# Altium schematic symbol library WC_Lib.SchLib: 6 symbols
Pins are listed as number, name and electrical type; pins without a type are passive.

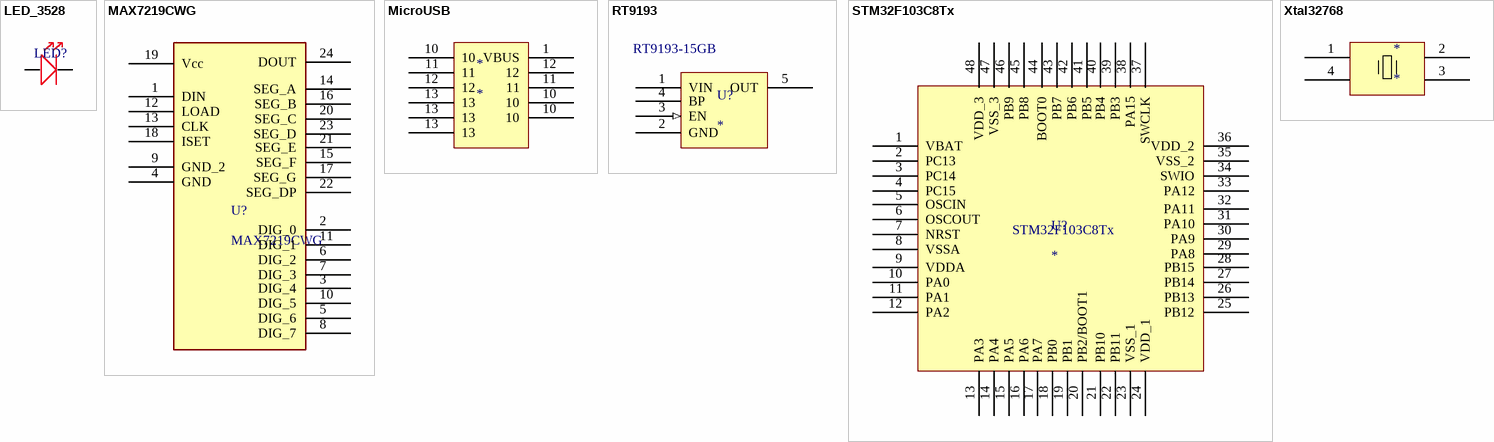
[diagram p0: symbols LED_3528 to Xtal32768]

## LED_3528
designator LED?, comment KA-3528EC  (value not drawn)
KINGBRIGHT         KA-3528EC             LED, Red, SMD, 2.4mm, 20 mA, 2 V, 627 nm; Rad Hard: No; Type: Uni-Color; Number of LEDs: 1; Intensity: 40(Max) mcd; Peak Wavelength: 625 nm; Lens Appearance: Colorless Non Diffused; Lens Shape Type: Circular; Viewing Angle: 120 °; Mounting Orientation: Top Mount; Supplier 1: Farnell; Manufacturer: Kingbright; Manufacturer Part Number: KA-3528EC; Stock 1: 2196; Pricing 1: 5=0.372, 25=0.282, 100=0.232, 250=0.175, 500=0.15, 1000=0.134 (EUR); Package: 2SMD; Pin Count: 2; Color: Red; Mounting: Surface Mount; Category: LEDs; ComponentLink1URL: https://datasheet.ciiva.com/5785/1500240-5785780.pdf; ComponentLink1Description: https://datasheet.ciiva.com/5785/1500240-5785780.pdf; ComponentLink2URL: https://datasheet.ciiva.com/14176/bd254568-254571-14176482.pdf; ComponentLink2Description: https://datasheet.ciiva.com/14176/bd254568-254571-14176482.pdf; ComponentLink3URL: https://datasheet.ciiva.com/8060/1500240-8060332.pdf; ComponentLink3Description: https://datasheet.ciiva.com/8060/1500240-8060332.pdf; ComponentLink4URL: https://datasheet.ciiva.com/8060/1500240-8060331.pdf; ComponentLink4Description: https://datasheet.ciiva.com/8060/1500240-8060331.pdf; ComponentLink5URL: https://datasheet.ciiva.com/20166/72-8261-20166551.pdf; ComponentLink5Description: https://datasheet.ciiva.com/20166/72-8261-20166551.pdf; Supplier Part Number 1: 8530211
footprint DIOM3228X21N (Molded Diode, 2-Leads, Body 3.20x2.80mm, IPC Medium Density)
footprint DIOM3020X13N (Molded Diode, 2-Leads, Body 3.00x2.00mm, IPC Medium Density)
pins: 1, 2

## MAX7219CWG
designator U?
IC DRIVER LED DISP 8DGT 24-SOIC; Manufacturer: Maxim; Number of Digits: 8; Number of Segments: 64; Operating Supply Voltage: 4 V to 5.5 V; Supply Current - Max: 330 mA; Brand: Maxim Integrated; High Level Output Current: - 2 mA; Low Level Output Current: 5 mA; Pd - Power Dissipation: 941 mW; Unit Weight: 0.025909 oz; Supplier 1: Digi-Key; Manufacturer Part Number: MAX7219CWG; Stock 1: 0; Product Category: LED Display Drivers; Mounting Style: SMD/SMT; Package / Case: SOIC-Wide-24; Maximum Operating Temperature: + 70 C; Minimum Operating Temperature: 0 C; Packaging: Tube; Height: 2.35 mm; Length: 15.6 mm; Product: LED Display Drivers; Series: MAX7219; Factory Pack Quantity: 30; Width: 7.6 mm; Part # Aliases: MAX7219; &lt;PCN&gt;: http://www.mouser.com/PCN/Maxim IC_M000753.pdf; ComponentLink1URL: https://datasheet.ciiva.com/26876/max7219cwg-26876054.pdf; ComponentLink1Description: https://datasheet.ciiva.com/26876/max7219cwg-26876054.pdf; ComponentLink2URL: https://datasheet.ciiva.com/3166/max7219-max7221-3166235.pdf; ComponentLink2Description: https://datasheet.ciiva.com/3166/max7219-max7221-3166235.pdf; ComponentLink3URL: https://datasheet.ciiva.com/1941/max7219-max7221-1941392.pdf; ComponentLink3Description: https://datasheet.ciiva.com/1941/max7219-max7221-1941392.pdf; ComponentLink4URL: https://datasheet.ciiva.com/17405/max7219-max7221-17405253.pdf; ComponentLink4Description: https://datasheet.ciiva.com/17405/max7219-max7221-17405253.pdf; Supplier Part Number 1: MAX7219CWG-ND
pins: 1 DIN, 2 DIG_0, 3 DIG_4, 4 GND (power), 5 DIG_6, 6 DIG_2, 7 DIG_3, 8 DIG_7, 9 GND_2 (power), 10 DIG_5, 11 DIG_1, 12 LOAD, 13 CLK, 14 SEG_A, 15 SEG_F, 16 SEG_B, 17 SEG_G, 18 ISET, 19 Vcc (power), 20 SEG_C, 21 SEG_E, 22 SEG_DP, 23 SEG_D, 24 DOUT (power)

## MicroUSB
designator *
pins: 1 VBUS, 10, 10, 10, 11, 11, 12, 12, 13, 13, 13

## RT9193
designator U?  Manufacturer Part Number: RT9193-15GB
RICHTEK         RT9193-15GB            IC, LDO, FIXED, 1.5V, 0.3A, SOT-23-5; Input Voltage Min: 2.5V; Input Voltage Max: 5.5V; Output Current: 300mA; LDO Regulator Case Style: SOT-23; No. of Pins: 5Pins; SVHC: No SVHC (17-Dec-2015); Supplier 1: Newark; Manufacturer: Richtek; Stock 1: 2999; Output Voltage Nom.: 1.5V; Operating Temperature Min: -40°C; Operating Temperature Max: 85°C; Packaging: Each; ComponentLink1URL: http://www.farnell.com/datasheets/1720535.pdf; ComponentLink1Description: http://www.farnell.com/datasheets/1720535.pdf; ComponentLink2URL: http://www.richtek.com/assets/product_file/RT9193/DS9193-16.pdf; ComponentLink2Description: http://www.richtek.com/assets/product_file/RT9193/DS9193-16.pdf; Supplier Part Number 1: 42AC0083
footprint SOT95P279X129-5N (SOT23, 5-Leads, Body 2.90x2.79mm, Pitch 0.95mm, IPC Medium Density)
pins: 1 VIN (power), 2 GND (power), 3 EN (in), 4 BP, 5 OUT

## STM32F103C8Tx
designator U?  Manufacturer Part Number: STM32F103C8T6
MCU 32-bit STM32F ARM Cortex M3 RISC 64KB Flash 2.5V/3.3V 48-Pin LQFP Tray; Manufacturer: STMicroelectronics; Data Bus Width: 32bit; Maximum Frequency: 72MHz; RAM Size: 20 kB; USB Channels: 1 x Device; Number of PWM Units: 1; ADC Channels: 10; Number of SPI Channels: 2; Typical Operating Supply Voltage: 2 → 3.6 V; Pulse Width Modulation: 1(16 bit) (Motor Control); Timers: 3 x 16 bit; Timer Resolution: 16bit; ADC Resolution: 12bit; Number of Timers: 3; ADCs: 2(10 x 12 bit); Supplier 1: Digi-Key; Stock 1: 2771; Pricing 1: 1=6.06, 10=5.438, 100=4.4558, 500=3.7931, 1000=3.199 (USD); Family Name: STM32F; Package Type: LQFP; Mounting Type: Surface Mount; Pin Count: 48; Device Core: ARM Cortex M3; Program Memory Size: 64 kB; Length: 7.2mm; Dimensions: 7.2 x 7.2 x 1.45mm; Number of ADC Units: 2; Number of USART Channels: 3; PWM Resolution: 16bit; Instruction Set Architecture: RISC; Height: 1.45mm; Maximum Operating Temperature: +85 °C; Number of I2C Channels: 2; Width: 7.2mm; Program Memory Type: Flash; Minimum Operating Temperature: -40 °C; Number of CAN Channels: 1; ComponentLink1URL: https://datasheet.ciiva.com/16210/cd00161566-16210248.pdf; ComponentLink1Description: https://datasheet.ciiva.com/16210/cd00161566-16210248.pdf; ComponentLink2URL: https://datasheet.ciiva.com/14100/pustm-arm-microcont-stm32f103-en-14100508.pdf; ComponentLink2Description: https://datasheet.ciiva.com/14100/pustm-arm-microcont-stm32f103-en-14100508.pdf; ComponentLink3URL: https://datasheet.ciiva.com/15122/getdatasheetpartid-69880-15122076.pdf; ComponentLink3Description: https://datasheet.ciiva.com/15122/getdatasheetpartid-69880-15122076.pdf; ComponentLink4URL: https://datasheet.ciiva.com/8054/1730126-8054942.pdf; ComponentLink4Description: https://datasheet.ciiva.com/8054/1730126-8054942.pdf; ComponentLink5URL: https://datasheet.ciiva.com/48687/001075658-da-01-en-mcu-64kb-mem-stm32f103c8t6-lqfp-48-stm-48687589.pdf; ComponentLink5Description: https://datasheet.ciiva.com/48687/001075658-da-01-en-mcu-64kb-mem-stm32f103c8t6-lqfp-48-stm-48687589.pdf; ComponentLink6URL: https://datasheet.ciiva.com/26816/stm32f103c8t6-26816902.pdf; ComponentLink6Description: https://datasheet.ciiva.com/26816/stm32f103c8t6-26816902.pdf; Supplier Part Number 1: 497-6063-ND
footprint TSQFP50P900X900X160-48N (TSQFP, 48-Leads, Body 7.00x7.00mm, Pitch 0.50mm, IPC Medium Density)
pins: 1 VBAT, 2 PC13, 3 PC14, 4 PC15, 5 OSCIN, 6 OSCOUT, 7 NRST, 8 VSSA, 9 VDDA, 10 PA0, 11 PA1, 12 PA2, 13 PA3, 14 PA4, 15 PA5, 16 PA6, 17 PA7, 18 PB0, 19 PB1, 20 PB2/BOOT1, 21 PB10, 22 PB11, 23 VSS_1, 24 VDD_1, 25 PB12, 26 PB13, 27 PB14, 28 PB15, 29 PA8, 30 PA9, 31 PA10, 32 PA11, 33 PA12, 34 SWIO, 35 VSS_2, 36 VDD_2, 37 SWCLK, 38 PA15, 39 PB3, 40 PB4, 41 PB5, 42 PB6, 43 PB7, 44 BOOT0, 45 PB8, 46 PB9, 47 VSS_3, 48 VDD_3

## Xtal32768
designator *
pins: 1, 2, 3, 4